# EAGLE library part CLAMP_1X6 (library be_con_jump)
drawn: Mario Blunk / Blunk electronic
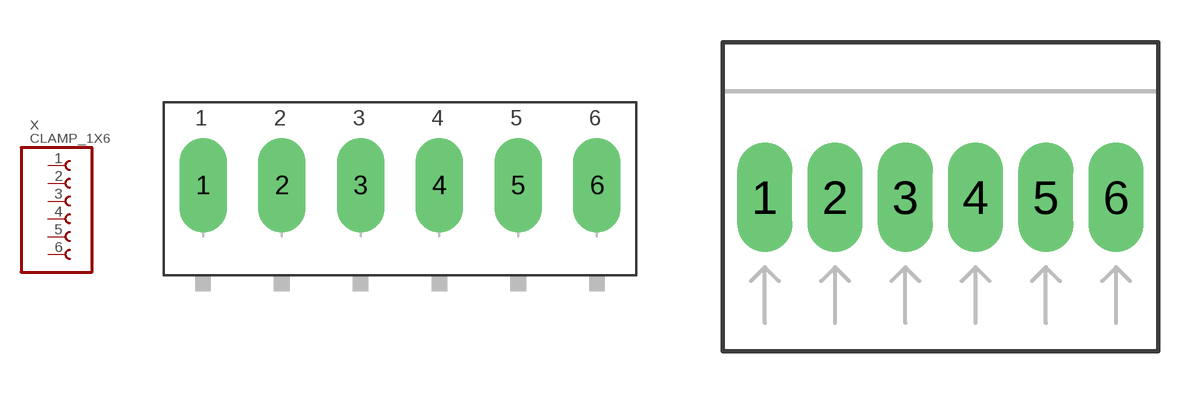
[diagram p14: symbol with the pads of T_WIRE_CLAMP_1X6_5MM; footprints T_WIRE_CLAMP_1X6_5MM, T_WIRE_CLAMP_1X6_2.5MM]

Designator prefix X

## CLAMP_1X6-T-5MM (BOM: YES; COMMISSIONED: 2013-08-30; PART_CODE_BEL: X_PAC_T_CLAMP_1X6_5mm)  [T_WIRE_CLAMP_1X6_5MM]
1  1  pas
2  2  pas
3  3  pas
4  4  pas
5  5  pas
6  6  pas

## CLAMP_1X6-T-2.5MM (BOM: YES; COMMISSIONED: 2014-04-14; PART_CODE_BEL: X_PAC_T_CLAMP_1X6_2.5mm)  [T_WIRE_CLAMP_1X6_2.5MM]
Pads as for T_WIRE_CLAMP_1X6_5MM

## Footprint T_WIRE_CLAMP_1X6_5MM (pad centres in mm)
edited; 2015-01-15 drawn: Mario Blunk / Blunk electronic
drill 1.4 pad 3 long: 1 -12.5,-0.02; 2 -7.5,-0.02; 3 -2.5,-0.02; 4 2.5,-0.02; 5 7.5,-0.02; 6 12.5,-0.02

## Footprint T_WIRE_CLAMP_1X6_2.5MM (pad centres in mm)
date; 2014-04-14 drawn: Mario Blunk / Blunk electronic
drill 1.3 pad 1.8 long: 1 -6.25,-0.02; 2 -3.75,-0.02; 3 -1.25,-0.02; 4 1.25,-0.02; 5 3.75,-0.02; 6 6.25,-0.02